# EAGLE library part GBA_LINK_SOCKET (library GBA_EMU)
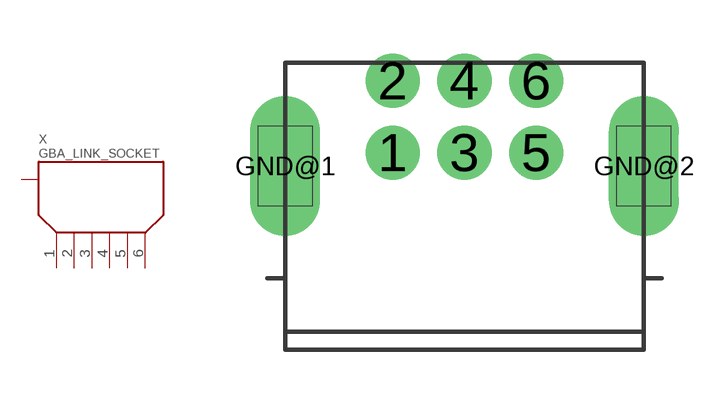
[diagram p1: symbol with the pads of GBA_LINK_SOCKET; footprint GBA_LINK_SOCKET]

Designator prefix X

## GBA_LINK_SOCKET  [GBA_LINK_SOCKET]
1  1
2  2
3  3
4  4
5  5
6  6
GND@1  GND
GND@2  GND

## Footprint GBA_LINK_SOCKET (pad centres in mm)
drill 1: 1 -2,-1; 2 -2,1; 3 0,-1; 4 0,1; 5 2,-1; 6 2,1
drill 1.3 long: GND@1 -5,-1.375; GND@2 5,-1.375